# Altium footprint library TO-39.PcbLib: 1 footprints
Each footprint in its own frame and in the unit in brackets; x right, y up, seen from the top. Pads: shape width x height; smd on the part's side, far side on the other; paste and mask are expansions set on the pad; w line width, h text height; cw(c..) or ccw(c..) is an arc to the next point about the centre after c.
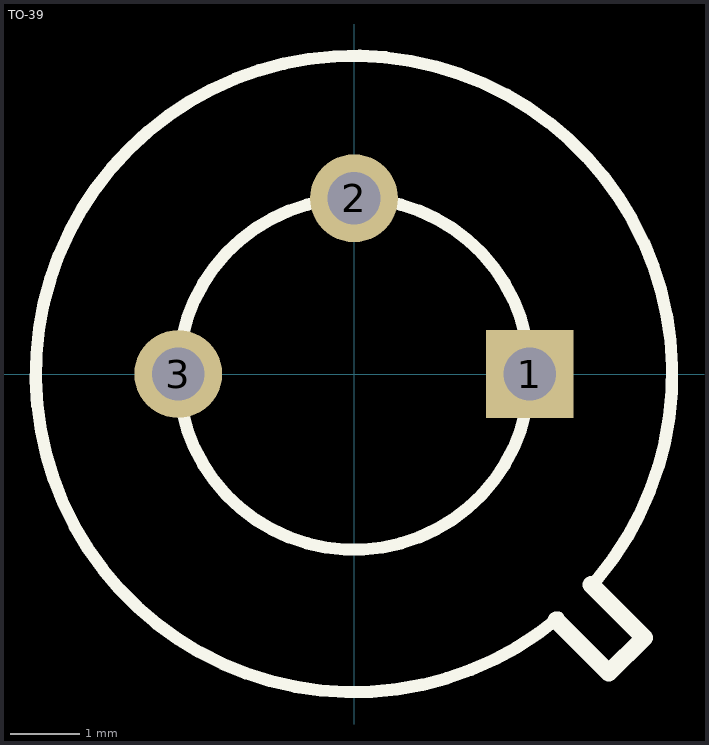
[diagram p0: the footprint, top view; thin cyan lines are the x and y axes]

## TO-39 [mil]
pads (3):
  rect 50x50 hole 30: 1(100,0)
  round 50 hole 30: 2(0,100) 3(-100,0)
Top Overlay:
  circle w7: c0,0 r100
  lines w7: 116.34,-138.65 cw(c0,0) 138.65,-116.34
  lines w10: 115,-140 145,-170 165,-150 135,-120
3D body: height 20, standoff 0, extent -180,-180 180.57,181.29
3D body: height 200, standoff 20, extent -165,-160 161.71,167.35